# EAGLE library part TESEO-LIV3F (library GNSS)
GPS Modules Tiny GNSS module Source: Datasheet <https://www.st.com/resource/en/datasheet/teseo-liv3f.pdf>
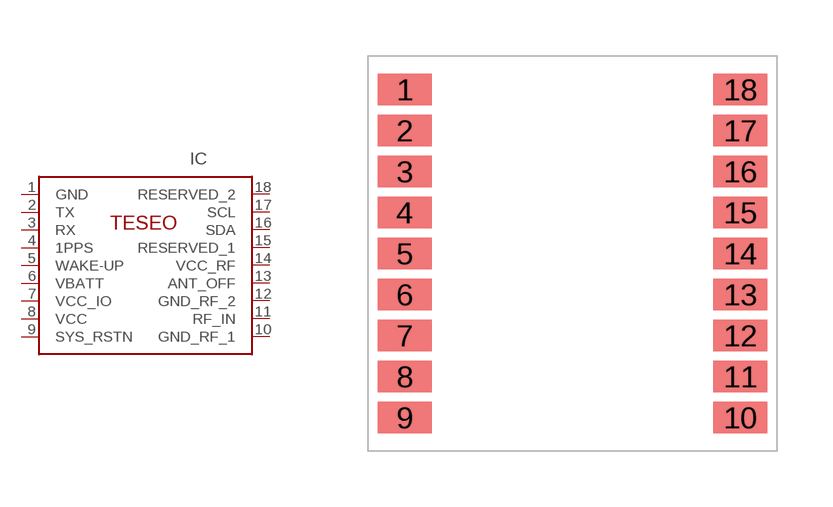
[diagram p0: symbol with the pads of SON110P970X1010X230-18N; footprint SON110P970X1010X230-18N]

Designator prefix IC

## TESEO-LIV3F (DESCRIPTION: GPS Modules Tiny GNSS module; HEIGHT: 2.3mm; MANUFACTURER_NAME: STMicroelectronics; MANUFACTURER_PART_NUMBER: TESEO-LIV3F; MOUSER_PART_NUMBER: 511-TESEO-LIV3F; MOUSER_PRICE-STOCK: https://www.mouser.co.uk/ProductDetail/STMicroelectronics/TESEO-LIV3F?qs=HXFqYaX1Q2wXp9tn7dEmMw%3D%3D)  [SON110P970X1010X230-18N]
1  GND
2  TX
3  RX
4  1PPS
5  WAKE-UP
6  VBATT
7  VCC_IO
8  VCC
9  SYS_RSTN
10  GND_RF_1
11  RF_IN
12  GND_RF_2
13  ANT_OFF
14  VCC_RF
15  RESERVED_1
16  SDA
17  SCL
18  RESERVED_2

## Footprint SON110P970X1010X230-18N (pad centres in mm)
TESEO-LIV3F
smd 1.45 x 0.85: 1 -4.5,4.4; 2 -4.5,3.3; 3 -4.5,2.2; 4 -4.5,1.1; 5 -4.5,0; 6 -4.5,-1.1; 7 -4.5,-2.2; 8 -4.5,-3.3; 9 -4.5,-4.4; 10 4.5,-4.4; 11 4.5,-3.3; 12 4.5,-2.2; 13 4.5,-1.1; 14 4.5,0; 15 4.5,1.1; 16 4.5,2.2; 17 4.5,3.3; 18 4.5,4.4